# Altium footprint library IIS2MDCTR.PcbLib: 3 footprints
Each footprint in its own frame and in the unit in brackets; x right, y up, seen from the top. Pads: shape width x height; smd on the part's side, far side on the other; paste and mask are expansions set on the pad; w line width, h text height; cw(c..) or ccw(c..) is an arc to the next point about the centre after c.
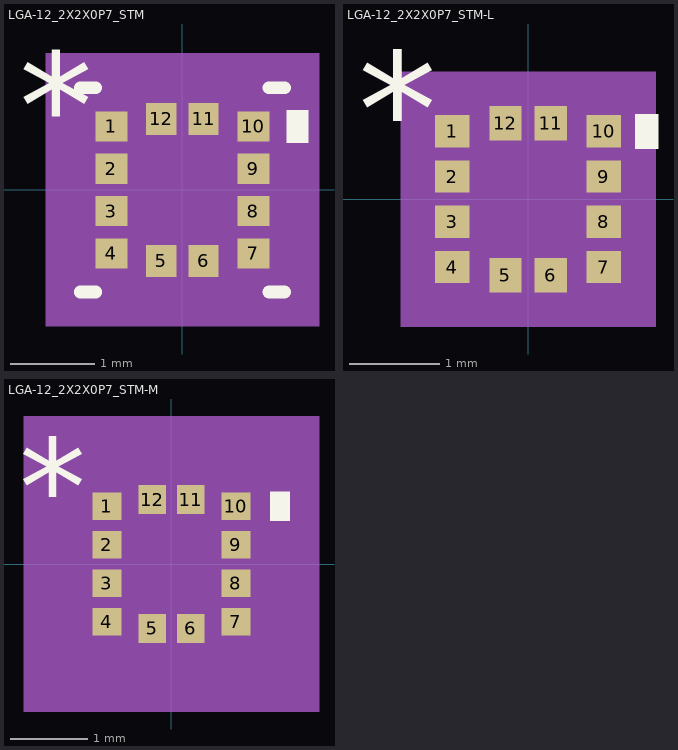
[diagram p0: the footprints below, top view; thin cyan lines are the x and y axes]

## LGA-12_2X2X0P7_STM [mil]
pads (12):
  rect 15x14 smd paste+0 mask+4: 1(-33,29.53) 2(-33,9.84) 3(-33,-9.84) 4(-33,-29.53) 7(33,-29.53) 8(33,-9.84) 9(33,9.84) 10(33,29.53)
  rect 14x15 smd paste+0 mask+4: 5(-9.84,-33) 6(9.84,-33) 11(9.84,33) 12(-9.84,33)
Top Overlay:
  region: 48.5,37.03 58.5,37.03 58.5,22.03 48.5,22.03
  lines w6: -47.5,-47.5 -40.32,-47.5 ; -47.5,47.5 -40.32,47.5 ; 40.32,-47.5 47.5,-47.5 ; 40.32,47.5 47.5,47.5
  text "*" at -76,14.37 h50
Mechanical 5:
  region: 63.5,-63.5 -63.5,-63.5 -63.5,63.5 63.5,63.5
Mechanical 13:
  lines w1: -42.5,-7.5 7.5,42.5 ; -42.5,-42.5 42.5,-42.5 ; -42.5,-42.5 -42.5,42.5 ; -42.5,-42.5 -42.5,-42.5 ; -42.5,42.5 42.5,42.5 ; -42.5,42.5 -42.5,42.5 ; 42.5,-42.5 42.5,-42.5 ; 42.5,-42.5 42.5,42.5 ; 42.5,42.5 42.5,42.5 ; -42.5,-34.53 -42.5,-24.53 -38.5,-24.53 -38.5,-34.53 -42.5,-34.53 ; -42.5,-14.84 -42.5,-4.84 -38.5,-4.84 -38.5,-14.84 -42.5,-14.84 ; -42.5,4.84 -42.5,14.84 -38.5,14.84 -38.5,4.84 -42.5,4.84 ; -42.5,24.53 -42.5,34.53 -38.5,34.53 -38.5,24.53 -42.5,24.53 ; -14.84,-42.5 -4.84,-42.5 -4.84,-38.5 -14.84,-38.5 -14.84,-42.5 ; -14.84,38.5 -4.84,38.5 -4.84,42.5 -14.84,42.5 -14.84,38.5 ; 4.84,-42.5 14.84,-42.5 14.84,-38.5 4.84,-38.5 4.84,-42.5 ; 4.84,38.5 14.84,38.5 14.84,42.5 4.84,42.5 4.84,38.5 ; 38.5,-34.53 42.5,-34.53 42.5,-24.53 38.5,-24.53 38.5,-34.53 ; 38.5,-14.84 42.5,-14.84 42.5,-4.84 38.5,-4.84 38.5,-14.84 ; 38.5,4.84 42.5,4.84 42.5,14.84 38.5,14.84 38.5,4.84 ; 38.5,24.53 42.5,24.53 42.5,34.53 38.5,34.53 38.5,24.53
  text "*" at -40,14.37 h50
Mechanical 15:
  region: -24.84,-52.5 -52.5,-52.5 -52.5,-44.53 -52.5,44.53 -52.5,52.5 -24.84,52.5 24.84,52.5 52.5,52.5 52.5,44.53 52.5,-44.53 52.5,-52.5 24.84,-52.5
  lines w6: -52.5,-44.53 -52.5,-52.5 -24.84,-52.5 ; -52.5,-44.53 -52.5,-44.53 ; -52.5,-44.53 -52.5,44.53 ; -52.5,44.53 -52.5,44.53 ; -52.5,44.53 -52.5,52.5 -24.84,52.5 ; -24.84,-52.5 24.84,-52.5 ; -24.84,-52.5 -24.84,-52.5 ; -24.84,52.5 -24.84,52.5 ; -24.84,52.5 24.84,52.5 ; 24.84,-52.5 52.5,-52.5 52.5,-44.53 ; 24.84,-52.5 24.84,-52.5 ; 24.84,52.5 24.84,52.5 ; 24.84,52.5 52.5,52.5 52.5,44.53 ; 52.5,-44.53 52.5,44.53 ; 52.5,-44.53 52.5,-44.53 ; 52.5,44.53 52.5,44.53
3D body "LGA-12_2X2X0P7_STM.step": height 28.11, standoff 0, extent -42.52,-42.52 42.52,42.52

## LGA-12_2X2X0P7_STM-L [mil]
pads (12):
  rect 15x14 smd paste+0 mask+4: 1(-33,29.53) 2(-33,9.84) 3(-33,-9.84) 4(-33,-29.53) 7(33,-29.53) 8(33,-9.84) 9(33,9.84) 10(33,29.53)
  rect 14x15 smd paste+0 mask+4: 5(-9.84,-33) 6(9.84,-33) 11(9.84,33) 12(-9.84,33)
Top Overlay:
  region: 46.5,37.03 56.5,37.03 56.5,22.03 46.5,22.03
  text "*" at -74,14.37 h50
Mechanical 5:
  region: 55.5,-55.5 -55.5,-55.5 -55.5,55.5 55.5,55.5
Mechanical 13:
  lines w1: -42.5,-7.5 7.5,42.5 ; -42.5,-42.5 42.5,-42.5 ; -42.5,-42.5 -42.5,42.5 ; -42.5,-42.5 -42.5,-42.5 ; -42.5,42.5 42.5,42.5 ; -42.5,42.5 -42.5,42.5 ; 42.5,-42.5 42.5,-42.5 ; 42.5,-42.5 42.5,42.5 ; 42.5,42.5 42.5,42.5 ; -42.5,-34.53 -42.5,-24.53 -38.5,-24.53 -38.5,-34.53 -42.5,-34.53 ; -42.5,-14.84 -42.5,-4.84 -38.5,-4.84 -38.5,-14.84 -42.5,-14.84 ; -42.5,4.84 -42.5,14.84 -38.5,14.84 -38.5,4.84 -42.5,4.84 ; -42.5,24.53 -42.5,34.53 -38.5,34.53 -38.5,24.53 -42.5,24.53 ; -14.84,-42.5 -4.84,-42.5 -4.84,-38.5 -14.84,-38.5 -14.84,-42.5 ; -14.84,38.5 -4.84,38.5 -4.84,42.5 -14.84,42.5 -14.84,38.5 ; 4.84,-42.5 14.84,-42.5 14.84,-38.5 4.84,-38.5 4.84,-42.5 ; 4.84,38.5 14.84,38.5 14.84,42.5 4.84,42.5 4.84,38.5 ; 38.5,-34.53 42.5,-34.53 42.5,-24.53 38.5,-24.53 38.5,-34.53 ; 38.5,-14.84 42.5,-14.84 42.5,-4.84 38.5,-4.84 38.5,-14.84 ; 38.5,4.84 42.5,4.84 42.5,14.84 38.5,14.84 38.5,4.84 ; 38.5,24.53 42.5,24.53 42.5,34.53 38.5,34.53 38.5,24.53
  text "*" at -42,14.37 h50
Mechanical 15:
  region: -17.84,-46.5 -46.5,-46.5 -46.5,-37.53 -46.5,37.53 -46.5,46.5 -17.84,46.5 17.84,46.5 46.5,46.5 46.5,37.53 46.5,-37.53 46.5,-46.5 17.84,-46.5
  lines w6: -46.5,-37.53 -46.5,-46.5 -17.84,-46.5 ; -46.5,-37.53 -46.5,-37.53 ; -46.5,-37.53 -46.5,37.53 ; -46.5,37.53 -46.5,37.53 ; -46.5,37.53 -46.5,46.5 -17.84,46.5 ; -17.84,-46.5 17.84,-46.5 ; -17.84,-46.5 -17.84,-46.5 ; -17.84,46.5 -17.84,46.5 ; -17.84,46.5 17.84,46.5 ; 17.84,-46.5 46.5,-46.5 46.5,-37.53 ; 17.84,-46.5 17.84,-46.5 ; 17.84,46.5 17.84,46.5 ; 17.84,46.5 46.5,46.5 46.5,37.53 ; 46.5,-37.53 46.5,37.53 ; 46.5,-37.53 46.5,-37.53 ; 46.5,37.53 46.5,37.53
3D body "LGA-12_2X2X0P7_STM.step": height 28.11, standoff 0, extent -42.52,-42.52 42.52,42.52

## LGA-12_2X2X0P7_STM-M [mil]
pads (12):
  rect 15x14 smd paste+0 mask+4: 1(-33,29.53) 2(-33,9.84) 3(-33,-9.84) 4(-33,-29.53) 7(33,-29.53) 8(33,-9.84) 9(33,9.84) 10(33,29.53)
  rect 14x15 smd paste+0 mask+4: 5(-9.84,-33) 6(9.84,-33) 11(9.84,33) 12(-9.84,33)
Top Overlay:
  region: 50.5,37.03 60.5,37.03 60.5,22.03 50.5,22.03
  text "*" at -78,14.37 h50
Mechanical 5:
  region: 75.5,-75.5 -75.5,-75.5 -75.5,75.5 75.5,75.5
Mechanical 13:
  lines w1: -42.5,-7.5 7.5,42.5 ; -42.5,-42.5 42.5,-42.5 ; -42.5,-42.5 -42.5,42.5 ; -42.5,-42.5 -42.5,-42.5 ; -42.5,42.5 42.5,42.5 ; -42.5,42.5 -42.5,42.5 ; 42.5,-42.5 42.5,-42.5 ; 42.5,-42.5 42.5,42.5 ; 42.5,42.5 42.5,42.5 ; -42.5,-34.53 -42.5,-24.53 -38.5,-24.53 -38.5,-34.53 -42.5,-34.53 ; -42.5,-14.84 -42.5,-4.84 -38.5,-4.84 -38.5,-14.84 -42.5,-14.84 ; -42.5,4.84 -42.5,14.84 -38.5,14.84 -38.5,4.84 -42.5,4.84 ; -42.5,24.53 -42.5,34.53 -38.5,34.53 -38.5,24.53 -42.5,24.53 ; -14.84,-42.5 -4.84,-42.5 -4.84,-38.5 -14.84,-38.5 -14.84,-42.5 ; -14.84,38.5 -4.84,38.5 -4.84,42.5 -14.84,42.5 -14.84,38.5 ; 4.84,-42.5 14.84,-42.5 14.84,-38.5 4.84,-38.5 4.84,-42.5 ; 4.84,38.5 14.84,38.5 14.84,42.5 4.84,42.5 4.84,38.5 ; 38.5,-34.53 42.5,-34.53 42.5,-24.53 38.5,-24.53 38.5,-34.53 ; 38.5,-14.84 42.5,-14.84 42.5,-4.84 38.5,-4.84 38.5,-14.84 ; 38.5,4.84 42.5,4.84 42.5,14.84 38.5,14.84 38.5,4.84 ; 38.5,24.53 42.5,24.53 42.5,34.53 38.5,34.53 38.5,24.53
  text "*" at -38,14.37 h50
Mechanical 15:
  region: -35.84,-62.5 -62.5,-62.5 -62.5,-55.53 -62.5,55.53 -62.5,62.5 -35.84,62.5 35.84,62.5 62.5,62.5 62.5,55.53 62.5,-55.53 62.5,-62.5 35.84,-62.5
  lines w6: -62.5,-55.53 -62.5,-62.5 -35.84,-62.5 ; -62.5,-55.53 -62.5,-55.53 ; -62.5,-55.53 -62.5,55.53 ; -62.5,55.53 -62.5,55.53 ; -62.5,55.53 -62.5,62.5 -35.84,62.5 ; -35.84,-62.5 35.84,-62.5 ; -35.84,-62.5 -35.84,-62.5 ; -35.84,62.5 -35.84,62.5 ; -35.84,62.5 35.84,62.5 ; 35.84,-62.5 62.5,-62.5 62.5,-55.53 ; 35.84,-62.5 35.84,-62.5 ; 35.84,62.5 35.84,62.5 ; 35.84,62.5 62.5,62.5 62.5,55.53 ; 62.5,-55.53 62.5,55.53 ; 62.5,-55.53 62.5,-55.53 ; 62.5,55.53 62.5,55.53
3D body "LGA-12_2X2X0P7_STM.step": height 28.11, standoff 0, extent -42.52,-42.52 42.52,42.52